# EAGLE library part DG444DYZ (library Intersil_By_element14_Batch_1)
Monolithic, Quad SPST, CMOS Analog Switches
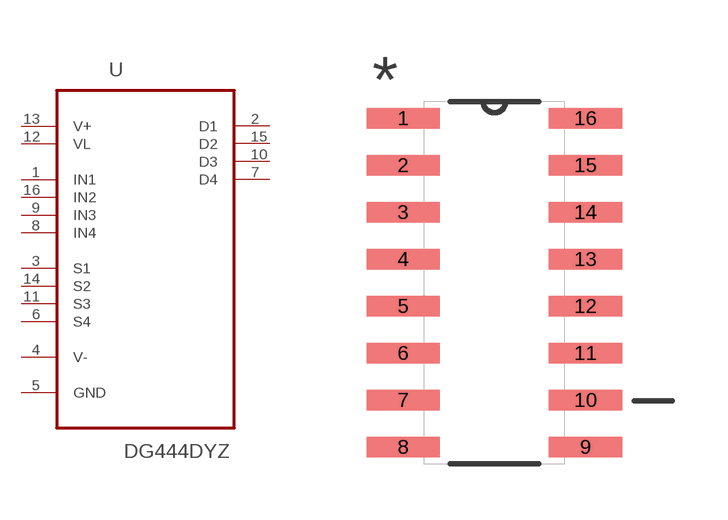
[diagram p47: symbol with the pads of SOIC127P600X175-16N; footprint SOIC127P600X175-16N]

Designator prefix U

## DG444DYZ (MPN: DG444DYZ; OC_FARNELL: 1201547; OC_NEWARK: 79K6184; PACKAGE: SOIC-16; SUPPLIER: INTERSIL)  [SOIC127P600X175-16N]
1  IN1  in
2  D1  out
3  S1  in
4  V-  pwr
5  GND  in
6  S4  pas
7  D4  out
8  IN4  in
9  IN3  in
10  D3  out
11  S3  in
12  VL  pwr
13  V+  pwr
14  S2  in
15  D2  out
16  IN2  in

## Footprint SOIC127P600X175-16N (pad centres in mm)
smd 1.981 x 0.559: 1 -2.464,4.445; 2 -2.464,3.175; 3 -2.464,1.905; 4 -2.464,0.635; 5 -2.464,-0.635; 6 -2.464,-1.905; 7 -2.464,-3.175; 8 -2.464,-4.445; 9 2.464,-4.445; 10 2.464,-3.175; 11 2.464,-1.905; 12 2.464,-0.635; 13 2.464,0.635; 14 2.464,1.905; 15 2.464,3.175; 16 2.464,4.445